# Altium schematic symbol library AUVic_Schematic_Library_Resistors.SchLib: 76 symbols
Pins are listed as number, name and electrical type; pins without a type are passive.

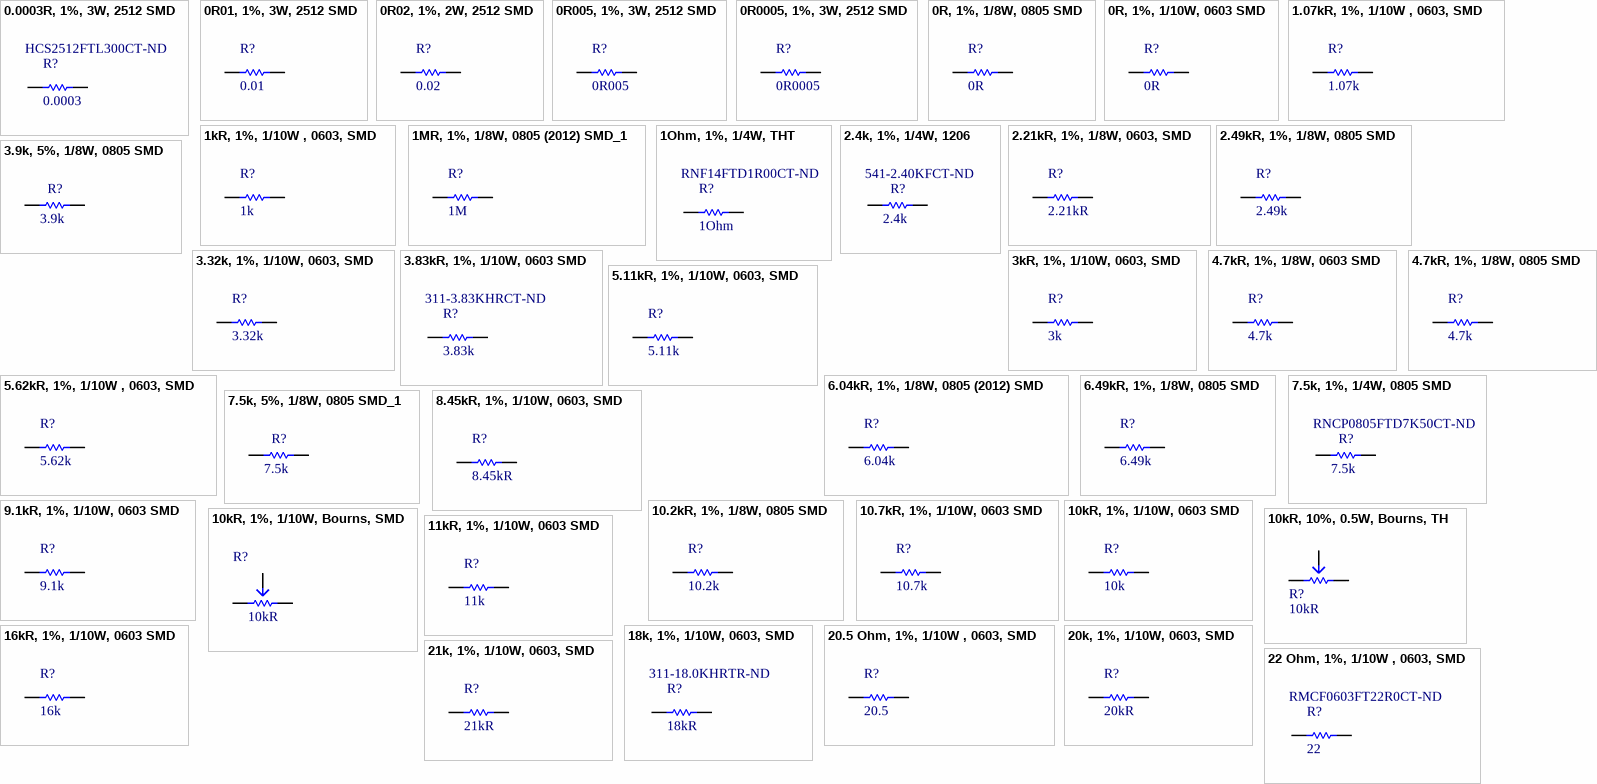
[diagram p0: symbols 0.0003R, 1%, 3W, 2512 SMD to 22 Ohm, 1%, 1/10W , 0603, SMD]

## 0.0003R, 1%, 3W, 2512 SMD
designator R?, comment 0.0003  Supplier Part Number 1: HCS2512FTL300CT-ND
0.0003R, 1%, 3W, 2512 SMD; Made By: Ashwin Sira; Owned By: AUVic; Created On: 14-05-31; Last Edited: 14-05-31; Value: 0.0003; Supplier 1: Digi-Key
footprint RESC6332N(2512") (Chip Resistor, Body 6.3x3.2mm (2512"), IPC Medium Density)
pins: 1, 2

## 0R01, 1%, 3W, 2512 SMD
designator R?, comment 0.01
RES 0.01 OHM 1% 3W 2512; Created By: Poorna Chander Kalidas; Created On: 2020-02-15; Supplier 1: Digi-Key; Supplier Part Number 1: CRA2512-FZ-R010ELFCT-ND; Value: 0.01
footprint RESC6332N(2512") (Chip Resistor, Body 6.3x3.2mm (2512"), IPC Medium Density)
pins: 1, 2

## 0R02, 1%, 2W, 2512 SMD
designator R?, comment 0.02
0R02, 1%, 2W, 2512 SMD; Created By: Robert Keen; Created On: 2018-08-16; ComponentLink1Description: Digikey; ComponentLink1URL: https://www.digikey.ca/product-detail/en/te-connectivity-passive-product/RLP73V3AR020FTDF/A109677CT-ND/4032443; Supplier 1: Digi-Key; Supplier Part Number 1: A109677CT-ND; Value: 0.02
footprint RESC6332N(2512") (Chip Resistor, Body 6.3x3.2mm (2512"), IPC Medium Density)
pins: 1, 2

## 0R005, 1%, 3W, 2512 SMD
designator R?, comment 0R005
0R005, 1%, 3W, 2512 SMD; MFG: Riedon; Created By: Andy Bates; Created On: 10-Nov-2017; Value: 0R005; Publisher: AUVic; Supplier 1: Digi-Key; Supplier Part Number 1: CRE2512-FZ-R005E-3CT-ND
footprint RESC6332N(2512") (Chip Resistor, Body 6.3x3.2mm (2512"), IPC Medium Density)
pins: 1, 2

## 0R0005, 1%, 3W, 2512 SMD
designator R?, comment 0R0005
0R0005, 1%, 3W, 2512 SMD; MFG: Riedon; MFG#: CSR2512C0R0005F; Last_Revision_By: Ashwin Sira; Last_Revision_Note: Made; Created By: Ashwin Sira; Created On: 2016-04-28; Value: 0R0005; Publisher: AUVic; Last_Revision_Date: 2016-04-28; Supplier 1: Digi-Key; Supplier Part Number 1: 696-1183-1-ND
footprint RESC6332N(2512") (Chip Resistor, Body 6.3x3.2mm (2512"), IPC Medium Density)
pins: 1, 2

## 0R, 1%, 1/8W, 0805 SMD
designator R?, comment 0R
0R, 1%, 1/8W, 0805 SMD; Made By: Ashwin Sira; Owned By: AUVic; Created On: 14-05-31; Last Edited: 14-05-31; Value: 0R; Supplier 1: Digi-Key; Supplier Part Number 1: 311-0.0ARCT-ND
footprint RESC2012N(0805") (Chip Resistor, Body 2.0x1.3mm (0805"), IPC Medium Density)
pins: 1, 2

## 0R, 1%, 1/10W, 0603 SMD
designator R?, comment 0R
0R, 1%, 1/10W, 0603 SMD; Made By: Ashwin Sira; Owned By: AUVic; Created On: 14-05-31; Last Edited: 14-05-31; Value: 0R; Supplier 1: Digi-Key; Supplier Part Number 1: 311-0.0GRCT-ND
footprint RESC1608N(0603") (Chip Resistor, Body 1.6x0.8mm (0603"), IPC Medium Density)
pins: 1, 2

## 1.07kR, 1%, 1/10W , 0603, SMD
designator R?, comment 1.07k
1.07kR, 1%, 1/10W , 0603, SMD; Created By: Ashwin Sira; Publisher: AUVic; Date Created: 2016-06-25; Value: 1.07k; Supplier 1: Digi-Key; Supplier Part Number 1: RMCF0603FT1K07CT-ND
footprint RESC1608N(0603") (Chip Resistor, Body 1.6x0.8mm (0603"), IPC Medium Density)
pins: 1, 2

## 1kR, 1%, 1/10W , 0603, SMD
designator R?, comment 1k
1kR, 1%, 1/10W , 0603, SMD; Created By: Andy Bates; Publisher: AUVic; Date Created: 2017-05-10; Value: 1k; Supplier 1: Digikey; Supplier Part Number 1: 311-1.00KHRCT-ND
footprint RESC1608N(0603") (Chip Resistor, Body 1.6x0.8mm (0603"), IPC Medium Density)
pins: 1, 2

## 1MR, 1%, 1/8W, 0805 (2012) SMD_1
designator R?, comment 1M
1MR, 1%, 1/8W, 0805 (2012) SMD; Made By: Ashwin Sira; Owned By: AUVic; Created On: 2016-03-14; Value: 1M; Supplier 1: Digi-Key; Supplier Part Number 1: P887KCCT-ND
footprint RESC2012N(0805") (Chip Resistor, Body 2.0x1.3mm (0805"), IPC Medium Density)
pins: 1, 2

## 1Ohm, 1%, 1/4W, THT
designator R?, comment 1Ohm  Supplier Part Number 1: RNF14FTD1R00CT-ND
1Ohm, 1%, 1/4W, THT; Made By: Ashwin Sira; Owned By: AUVic; Created On: 2016-03-09; Last Edited: 2016-03-09; Value: 1Ohm; Supplier 1: Digi-Key
footprint RESTHT 8mm (Resistor THT 30mil Hole, 8mm)
pins: 1, 2

## 2.4k, 1%, 1/4W, 1206
designator R?, comment 2.4k  Supplier Part Number 1: 541-2.40KFCT-ND
2.4k, 1%, 1/4W, 1206 SMD; Value: 2.4k; Created By: Robert Keen; Created On: 2018-07-11; ComponentLink1Description: Digikey; ComponentLink1URL: https://www.digikey.ca/product-detail/en/vishay-dale/CRCW12062K40FKEA/541-2.40KFCT-ND/1181801; Supplier 1: Digi-Key
footprint RESC1206(3216) (Chip Resistor, Body 3.2x1.6mm, IPC Low Density)
pins: 1, 2

## 2.21kR, 1%, 1/8W, 0603, SMD
designator R?, comment 2.21kR
2.21kR, 1%, 1/8W, 0603, SMD; Created By: *; Publisher: AUVic; Date Created: *; Value: 2.21kR; Supplier 1: Digi-Key; Supplier Part Number 1: RNCP0603FTD2K21CT-ND
footprint RESC1608N(0603") (Chip Resistor, Body 1.6x0.8mm (0603"), IPC Medium Density)
pins: 1, 2

## 2.49kR, 1%, 1/8W, 0805 SMD
designator R?, comment 2.49k
2.49kR, 1%, 1/8W, 0805 SMD; Made By: Ashwin Sira; Owned By: AUVic; Created On: 2016-03-18; Last Edited: 2016-03-18; Value: 2.49k; Supplier 1: Digi-Key; Supplier Part Number 1: 311-2.49KCRCT-ND
footprint RESC2012N(0805") (Chip Resistor, Body 2.0x1.3mm (0805"), IPC Medium Density)
pins: 1, 2

## 3.9k, 5%, 1/8W, 0805 SMD
designator R?, comment 3.9k
3.9k, 5%, 1/8W, 0805 SMD; Value: 3.9k; Created By: Lyden Smith; Created On: 2017-06-04; Supplier 1: Digi-Key; Supplier Part Number 1: RMCF0805JT3K90CT-ND
footprint RESC2012N(0805") (Chip Resistor, Body 2.0x1.3mm (0805"), IPC Medium Density)
pins: 1, 2

## 3.32k, 1%, 1/10W, 0603, SMD
designator R?, comment 3.32k
3.32k, 1%, 1/10W, 0603, SMD; Created By: Ashwin Sira; Publisher: AUVic; Date Created: 2016-06-25; Value: 3.32k; Supplier 1: Digi-Key; Supplier Part Number 1: RMCF0603FT3K32CT-ND
footprint RESC1608N(0603") (Chip Resistor, Body 1.6x0.8mm (0603"), IPC Medium Density)
pins: 1, 2

## 3.83kR, 1%, 1/10W, 0603 SMD
designator R?, comment 3.83k  Supplier Part Number 1: 311-3.83KHRCT-ND
3.83kR, 1%, 1/10W, 0603 SMD; Made By: Gabriel Green; Owned By: AUVic; Created On: June 25, 2017; Value: 3.83k; Supplier 1: Digi-Key
footprint RESC1608N(0603") (Chip Resistor, Body 1.6x0.8mm (0603"), IPC Medium Density)
pins: 1, 2

## 3kR, 1%, 1/10W, 0603, SMD
designator R?, comment 3k
Resistance, Tolerance, Power, 0603, SMD/THT; Created By: Jordan Day; Publisher: AUVic; Date Created: 09/28/2016; Value: 3k
footprint RESC1608N(0603") (Chip Resistor, Body 1.6x0.8mm (0603"), IPC Medium Density)
pins: 1, 2

## 4.7kR, 1%, 1/8W, 0603 SMD
designator R?, comment 4.7k
4.7kR, 1%, 1/8W, 0603 SMD; Made By: Ashwin Sira; Owned By: AUVic; Created On: 14-05-31; Last Edited: 14-05-31; Value: 4.7k; Supplier 1: Digi-Key; Supplier Part Number 1: MCT0603-4.70K-CFCT-ND
footprint RESC1608N(0603") (Chip Resistor, Body 1.6x0.8mm (0603"), IPC Medium Density)
pins: 1, 2

## 4.7kR, 1%, 1/8W, 0805 SMD
designator R?, comment 4.7k
4.7kR, 1%, 1/8W, 0805 SMD; Made By: Ashwin Sira; Owned By: AUVic; Created On: 14-05-31; Last Edited: 14-05-31; Value: 4.7k; Supplier 1: Digi-Key; Supplier Part Number 1: RMCF0805FT4K70CT-ND
footprint RESC2012N(0805") (Chip Resistor, Body 2.0x1.3mm (0805"), IPC Medium Density)
pins: 1, 2

## 5.11kR, 1%, 1/10W, 0603, SMD
designator R?, comment 5.11k
Resistance, Tolerance, Power, 0603, SMD/THT; Created By: Jordan Day; Publisher: AUVic; Date Created: 09/28/2016; Value: 5.11k
footprint RESC1608N(0603") (Chip Resistor, Body 1.6x0.8mm (0603"), IPC Medium Density)
pins: 1, 2

## 5.62kR, 1%, 1/10W , 0603, SMD
designator R?, comment 5.62k
5.62kR, 1%, 1/10W , 0603, SMD; Created By: Andy Bates; Publisher: AUVic; Date Created: 2016-06-29; Value: 5.62k; Supplier 1: Digi-Key; Supplier Part Number 1: 311-5.62KHRCT-ND
footprint RESC1608N(0603") (Chip Resistor, Body 1.6x0.8mm (0603"), IPC Medium Density)
pins: 1, 2

## 6.04kR, 1%, 1/8W, 0805 (2012) SMD
designator R?, comment 6.04k
6.04kR, 1%, 1/8W, 0805 (2012) SMD; Made By: Ashwin Sira; Owned By: AUVic; Created On: 2016-03-14; Value: 6.04k; Supplier 1: Digi-Key; Supplier Part Number 1: 311-6.04KCRCT-ND
footprint RESC2012N(0805") (Chip Resistor, Body 2.0x1.3mm (0805"), IPC Medium Density)
pins: 1, 2

## 6.49kR, 1%, 1/8W, 0805 SMD
designator R?, comment 6.49k
6.49kR, 1%, 1/8W, 0805 SMD; Made By: Ashwin Sira; Owned By: AUVic; Created On: 14-05-31; Last Edited: 14-05-31; Supplier 1: Digi-Key; Supplier Part Number 1: CR0805-FX-6491ELFCT-ND; Value: 6.49k
footprint RESC2012N(0805") (Chip Resistor, Body 2.0x1.3mm (0805"), IPC Medium Density)
pins: 1, 2

## 7.5k, 1%, 1/4W, 0805 SMD
designator R?, comment 7.5k  Supplier Part Number 1: RNCP0805FTD7K50CT-ND
7.5k, 1%, 1/4W, 0805 SMD; Value: 7.5k; Created By: Robert Keen; Created On: 2018-07-11; Supplier 1: Digi-Key; ComponentLink1Description: Digikey; ComponentLink1URL: https://www.digikey.ca/product-detail/en/stackpole-electronics-inc/RNCP0805FTD7K50/RNCP0805FTD7K50CT-ND/2240597
footprint RESC2012N(0805") (Chip Resistor, Body 2.0x1.3mm (0805"), IPC Medium Density)
pins: 1, 2

## 7.5k, 5%, 1/8W, 0805 SMD_1
designator R?, comment 7.5k
7.5k, 5%, 1/8W, 0805 SMD; Value: 7.5k; Created By: Lyden Smith; Created On: 2017-06-04; Supplier 1: Digi-Key; Supplier Part Number 1: 311-7.5KARCT-ND
footprint RESC2012N(0805") (Chip Resistor, Body 2.0x1.3mm (0805"), IPC Medium Density)
pins: 1, 2

## 8.45kR, 1%, 1/10W, 0603, SMD
designator R?, comment 8.45kR
8.45kR, 1%, 1/10W, 0603, SMD; Created By: Ashwin Sira; Publisher: AUVic; Date Created: 2016-06-10; Value: 8.45kR; Supplier 1: Digi-Key; Supplier Part Number 1: 541-8.45KHCT-ND
footprint RESC1608N(0603") (Chip Resistor, Body 1.6x0.8mm (0603"), IPC Medium Density)
pins: 1, 2

## 9.1kR, 1%, 1/10W, 0603 SMD
designator R?, comment 9.1k
9.1kR, 1%, 1/10W, 0603 SMD; Made By: Gabriel Green; Owned By: AUVic; Created On: June 25, 2017; Value: 9.1k; Supplier 1: Digi-Key; Supplier Part Number 1: 311-9.10KHRCT-ND
footprint RESC1608N(0603") (Chip Resistor, Body 1.6x0.8mm (0603"), IPC Medium Density)
pins: 1, 2

## 10.2kR, 1%, 1/8W, 0805 SMD
designator R?, comment 10.2k
10.2kR, 1%, 1/8W, 0805 SMD; Made By: Ashwin Sira; Owned By: AUVic; Created On: 2016-03-18; Last Edited: 2016-03-18; Value: 10.2k; Supplier 1: Digi-Key; Supplier Part Number 1: 311-10.2KCRCT-ND
footprint RESC2012N(0805") (Chip Resistor, Body 2.0x1.3mm (0805"), IPC Medium Density)
pins: 1, 2

## 10.7kR, 1%, 1/10W, 0603 SMD
designator R?, comment 10.7k
10.7kR, 1%, 1/10W, 0603 SMD; Made By: Gabriel Green; Owned By: AUVic; Created On: June 25, 2017; Value: 10.7k; Supplier 1: Digi-Key; Supplier Part Number 1: 311-10.7KHRCT-ND
footprint RESC1608N(0603") (Chip Resistor, Body 1.6x0.8mm (0603"), IPC Medium Density)
pins: 1, 2

## 10kR, 1%, 1/10W, 0603 SMD
designator R?, comment 10k
10kR, 1%, 1/10W, 0603 SMD; Made By: Ashwin Sira; Owned By: AUVic; Created On: 14-05-31; Last Edited: 14-05-31; Supplier 1: Digi-Key; Supplier Part Number 1: 311-10.0KHRCT-ND; Value: 10k
footprint RESC1608N(0603") (Chip Resistor, Body 1.6x0.8mm (0603"), IPC Medium Density)
pins: 1, 2

## 10kR, 1%, 1/10W, Bourns, SMD
designator R?, comment 10kR
10kR Pot, 1%, 1/10W, Bourns, SMD; Created By: Andy Bates; Publisher: AUVic; Date Created: 2016-09-8; Value: 10kR; Supplier 1: Digi-Key; Supplier Part Number 1: TC33X-103ETR-ND
footprint Bourns TC33X Trimmer
pins: 1, 2, 3

## 10kR, 10%, 0.5W, Bourns, TH
designator R?, comment 10kR
10kR Pot, 10%, 0.5W, Bourns, TH; Created By: Andy Bates; Publisher: AUVic; Date Created: 2016-09-8; Supplier 1: Digi-Key; Supplier Part Number 1: 490-2875-ND; Value: 10kR
footprint PV36
pins: 1, 2, 3

## 11kR, 1%, 1/10W, 0603 SMD
designator R?, comment 11k
11kR, 1%, 1/10W, 0603 SMD; Made By: Ashwin Sira; Owned By: AUVic; Created On: 14-05-31; Last Edited: 14-05-31; Value: 11k; Supplier 1: Digi-Key; Supplier Part Number 1: 311-11.0KHRCT-ND
footprint RESC1608N(0603") (Chip Resistor, Body 1.6x0.8mm (0603"), IPC Medium Density)
pins: 1, 2

## 16kR, 1%, 1/10W, 0603 SMD
designator R?, comment 16k
16kR, 1%, 1/10W, 0603 SMD; Made By: Ashwin Sira; Owned By: AUVic; Created On: 14-05-31; Last Edited: 14-05-31; Supplier 1: Digi-Key; Value: 16k; Supplier Part Number 1: 311-16.0KHRCT-ND
footprint RESC1608N(0603") (Chip Resistor, Body 1.6x0.8mm (0603"), IPC Medium Density)
pins: 1, 2

## 18k, 1%, 1/10W, 0603, SMD
designator R?, comment 18kR  Supplier Part Number 1: 311-18.0KHRTR-ND
18k, 1%, 1/10W, 0603, SMD; Created By: Andy Bates; Publisher: AUVic; Date Created: 2016-09-8; Value: 18kR; Supplier 1: Digi-Key
footprint RESC1608N(0603") (Chip Resistor, Body 1.6x0.8mm (0603"), IPC Medium Density)
pins: 1, 2

## 20.5 Ohm, 1%, 1/10W , 0603, SMD
designator R?, comment 20.5
20.5 Ohm, 1%, 1/10W , 0603, SMD; Created By: Gabriel Green; Publisher: AUVic; Date Created: 2017-06-23; Value: 20.5; Supplier 1: Digi-Key; Supplier Part Number 1: P20.5HCT-ND
footprint RESC1608N(0603") (Chip Resistor, Body 1.6x0.8mm (0603"), IPC Medium Density)
pins: 1, 2

## 20k, 1%, 1/10W, 0603, SMD
designator R?, comment 20kR
20k, 1%, 1/10W, 0603, SMD; Created By: Andy Bates; Publisher: AUVic; Date Created: 2016-09-8; Value: 20kR; Supplier 1: Digi-Key; Supplier Part Number 1: 311-20.0KHRCT-ND
footprint RESC1608N(0603") (Chip Resistor, Body 1.6x0.8mm (0603"), IPC Medium Density)
pins: 1, 2

## 21k, 1%, 1/10W, 0603, SMD
designator R?, comment 21kR
21k, 1%, 1/10W, 0603, SMD; Created By: Gabriel Green; Publisher: AUVic; Date Created: 2017-06-23; Value: 21kR; Supplier 1: Digi-Key; Supplier Part Number 1: 311-21.0KHRCT-ND
footprint RESC1608N(0603") (Chip Resistor, Body 1.6x0.8mm (0603"), IPC Medium Density)
pins: 1, 2

## 22 Ohm, 1%, 1/10W , 0603, SMD
designator R?, comment 22  Supplier Part Number 1: RMCF0603FT22R0CT-ND
22 Ohm, 1%, 1/10W , 0603, SMD; Created By: Robert Keen; Publisher: AUVic; Date Created: 2018-07-17; Value: 22; ComponentLink1Description: Digikey; ComponentLink1URL: https://www.digikey.ca/product-detail/en/stackpole-electronics-inc/RMCF0603FT22R0/RMCF0603FT22R0CT-ND/1942946; Supplier 1: Digi-Key
footprint RESC1608N(0603") (Chip Resistor, Body 1.6x0.8mm (0603"), IPC Medium Density)
pins: 1, 2

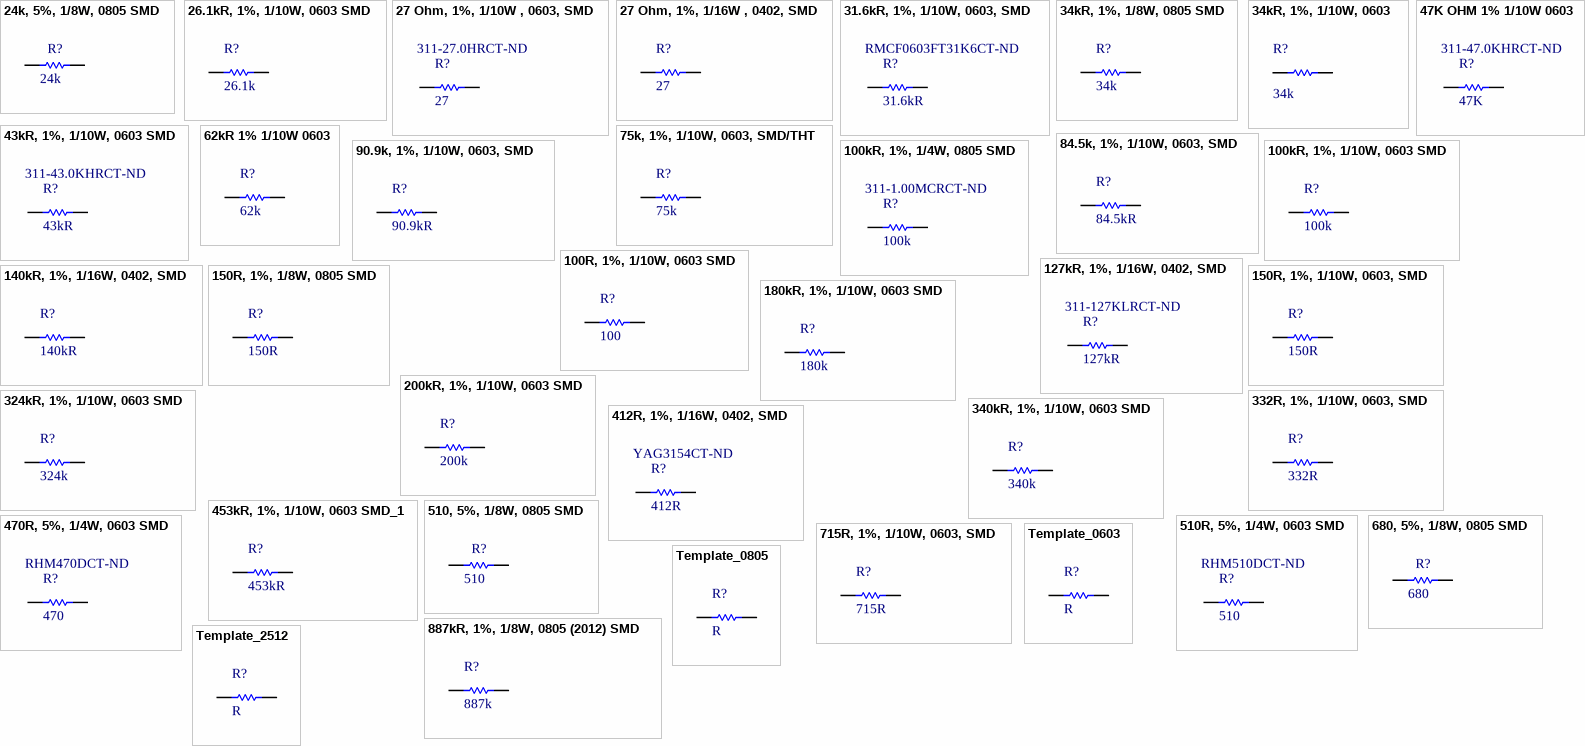
[diagram p1: symbols 24k, 5%, 1/8W, 0805 SMD to Template_2512]

## 24k, 5%, 1/8W, 0805 SMD
designator R?, comment 24k
24k, 5%, 1/8W, 0805 SMD; Value: 24k; Created By: Lyden Smith; Created On: 2017-06-04; Supplier 1: Digi-Key; Supplier Part Number 1: RMCF0805JT24K0CT-ND
footprint RESC2012N(0805") (Chip Resistor, Body 2.0x1.3mm (0805"), IPC Medium Density)
pins: 1, 2

## 26.1kR, 1%, 1/10W, 0603 SMD
designator R?, comment 26.1k
26.1kR, 1%, 1/10W, 0603 SMD; Made By: Gabriel Green; Owned By: AUVic; Created On: June 25, 2017; Value: 26.1k; Supplier 1: Digi-Key; Supplier Part Number 1: 311-26.1KHRCT-ND
footprint RESC1608N(0603") (Chip Resistor, Body 1.6x0.8mm (0603"), IPC Medium Density)
pins: 1, 2

## 27 Ohm, 1%, 1/10W , 0603, SMD
designator R?, comment 27  Supplier Part Number 1: 311-27.0HRCT-ND
27 Ohm, 1%, 1/10W , 0603, SMD; Created By: Andy Bates; Publisher: AUVic; Date Created: 2017-10-13; Value: 27; Supplier 1: Digi-Key
footprint RESC1608N(0603") (Chip Resistor, Body 1.6x0.8mm (0603"), IPC Medium Density)
pins: 1, 2

## 27 Ohm, 1%, 1/16W , 0402, SMD
designator R?, comment 27
27 Ohm, 1%, 1/16W , 0402, SMD; Created By: Andy Bates; Publisher: AUVic; Date Created: 2018-1-06; Value: 27; Supplier 1: Digi-Key; Supplier Part Number 1: YAG3086CT-ND
footprint RESC1005N(0402") (Chip Resistor, Body 1.1x0.5mm (0402"), IPC Medium Density)
pins: 1, 2

## 31.6kR, 1%, 1/10W, 0603, SMD
designator R?, comment 31.6kR  Supplier Part Number 1: RMCF0603FT31K6CT-ND
31.6kR, 1%, 1/10W, 0603, SMD; Created By: Robert Keen; Date Created: 2018-07-18; Value: 31.6kR; ComponentLink1Description: Digikey; ComponentLink1URL: https://www.digikey.ca/product-detail/en/stackpole-electronics-inc/RMCF0603FT31K6/RMCF0603FT31K6CT-ND/1943089; Supplier 1: Digi-Key
footprint RESC1608N(0603") (Chip Resistor, Body 1.6x0.8mm (0603"), IPC Medium Density)
pins: 1, 2

## 34kR, 1%, 1/8W, 0805 SMD
designator R?, comment 34k
34kR, 1%, 1/8W, 0805 SMD; Made By: Ashwin Sira; Owned By: AUVic; Created On: 14-05-31; Last Edited: 14-05-31; Supplier 1: Digi-Key; Supplier Part Number 1: RMCF0805FT34K0CT-ND; Value: 34k
footprint RESC2012N(0805") (Chip Resistor, Body 2.0x1.3mm (0805"), IPC Medium Density)
pins: 1, 2

## 34kR, 1%, 1/10W, 0603
designator R?, comment 34k
RES 34K OHM 1/10W 1% 0603 SMD; Manufacturer: Yageo; Manufacturer Part Number: RC0603FR-0734KL; Power (Watts): 0.1W, 1/10W; Temperature Coefficient: ±100ppm/°C; Supplier 1: Digi-Key; RoHS: RoHS Compliant; Category: Resistors; Stock 1: 192; Pricing 1: 1=0.1, 10=0.015, 25=0.0108, 100=0.006, 250=0.00456, 500=0.00364, 1000=0.00268, 2500=0.00233 (USD); Packaging: Cut Tape (CT); Resistance: 34k; Tolerance: ±1%; Composition: Thick Film; Features: Moisture Resistant; Operating Temperature: -55°C ~ 155°C; Package / Case: 0603 (1608 Metric); Supplier Device Package: 0603; Size / Dimension: 0.063" L x 0.031" W (1.60mm x 0.80mm); Height: 0.022" (0.55mm); Number of Terminations: 2; ComponentLink1URL: http://www.yageo.com/documents/recent/PYu-RC0603_51_RoHS_L_4.pdf; ComponentLink1Description: http://www.yageo.com/documents/recent/PYu-RC0603_51_RoHS_L_4.pdf; Supplier Part Number 1: 311-34.0KHRCT-ND
footprint RESC1608N(0603") (Chip Resistor, Body 1.6x0.8mm (0603"), IPC Medium Density)
pins: 1, 2

## 43kR, 1%, 1/10W, 0603 SMD
designator R?, comment 43kR  Supplier Part Number 1: 311-43.0KHRCT-ND
43kR, 1%, 1/10W, 0603 SMD; Made By: Andy Bates; Owned By: AUVic; Created On: 19-09-12; Last Edited: 16-09-13; Value: 43kR; Supplier 1: Digi-Key
footprint RESC1608N(0603") (Chip Resistor, Body 1.6x0.8mm (0603"), IPC Medium Density)
pins: 1, 2

## 47K OHM 1% 1/10W 0603
designator R?, comment 47K  Supplier Part Number 1: 311-47.0KHRCT-ND
47K OHM 1% 1/10W 0603; Made By: Silvano Todesco; Publisher: AUVic; Date Created: 11-07-2017; Value: 47K; Supplier 1: Digi-Key
footprint RESC1608N(0603") (Chip Resistor, Body 1.6x0.8mm (0603"), IPC Medium Density)
pins: 1, 2

## 62kR 1% 1/10W 0603
designator R?, comment 62k
62K OHM 1% 1/10W 0603; Made By: Silvano Todesco; Publisher: AUVic; Date Created: 11-09-2017; Value: 62k; Supplier 1: Digi-Key; Supplier Part Number 1: 311-62.0KHRCT-ND
footprint RESC1608N(0603") (Chip Resistor, Body 1.6x0.8mm (0603"), IPC Medium Density)
pins: 1, 2

## 75k, 1%, 1/10W, 0603, SMD/THT
designator R?, comment 75k
75k, 1%, 1/10W, 0603, SMD/THT; Created By: Jordan Day; Publisher: AUVic; Date Created: October 4, 2016; Value: 75k; Supplier: Digikey; Supplier Part Number: 311-75.0KHRCT-ND
footprint RESC1608N(0603") (Chip Resistor, Body 1.6x0.8mm (0603"), IPC Medium Density)
pins: 1, 2

## 84.5k, 1%, 1/10W, 0603, SMD
designator R?, comment 84.5kR
84.5k, 1%, 1/10W, 0603, SMD; Created By: Ashwin Sira; Publisher: AUVic; Date Created: 2016-06-25; Value: 84.5kR; Supplier 1: Digi-Key; Supplier Part Number 1: 541-84.5KHCT-ND
footprint RESC1608N(0603") (Chip Resistor, Body 1.6x0.8mm (0603"), IPC Medium Density)
pins: 1, 2

## 90.9k, 1%, 1/10W, 0603, SMD
designator R?, comment 90.9kR
90.9k, 1%, 1/10W, 0603, SMD; Created By: Andy Bates; Publisher: AUVic; Date Created: 2017-06-06; Value: 90.9kR; Supplier 1: Digikey; Supplier Part Number 1: 311-90.9KHRDKR-ND
footprint RESC1608N(0603") (Chip Resistor, Body 1.6x0.8mm (0603"), IPC Medium Density)
pins: 1, 2

## 100kR, 1%, 1/4W, 0805 SMD
designator R?, comment 100k  Supplier Part Number 1: 311-1.00MCRCT-ND
100kR, 1%, 1/4W, 0805 SMD; Made By: Ashwin Sira; Owned By: AUVic; Created On: 14-05-31; Last Edited: 14-05-31; Value: 100k; Supplier 1: Digi-Key
footprint RESC2012N(0805") (Chip Resistor, Body 2.0x1.3mm (0805"), IPC Medium Density)
pins: 1, 2

## 100kR, 1%, 1/10W, 0603 SMD
designator R?, comment 100k
100kR, 1%, 1/10W, 0603 SMD; Made By: Andy Bates; Owned By: AUVic; Created On: 14-06-30; Last Edited: 14-06-30; Value: 100k; Supplier 1: Digi-Key; Supplier Part Number 1: 311-100KGRCT-ND
footprint RESC1608N(0603") (Chip Resistor, Body 1.6x0.8mm (0603"), IPC Medium Density)
pins: 1, 2

## 100R, 1%, 1/10W, 0603 SMD
designator R?, comment 100
100R, 1%, 1/10W, 0603 SMD; Made By: Andy Bates; Owned By: AUVic; Created On: 16-09-10; Last Edited: 16-09-10; Value: 100; Supplier 1: Digi-Key; Supplier Part Number 1: 311-100HRCT-ND
footprint RESC1608N(0603") (Chip Resistor, Body 1.6x0.8mm (0603"), IPC Medium Density)
pins: 1, 2

## 127kR, 1%, 1/16W, 0402, SMD
designator R?, comment 127kR  Supplier Part Number 1: 311-127KLRCT-ND
127kR, 1%, 1/16W, 0402, SMD; Created By: Lyden Smith; Publisher: AUVic; Date Created: 2017-09-20; Value: 127kR; Supplier 1: Digi-Key
footprint RESC1005N(0402") (Chip Resistor, Body 1.1x0.5mm (0402"), IPC Medium Density)
pins: 1, 2

## 140kR, 1%, 1/16W, 0402, SMD
designator R?, comment 140kR
140kR, 1%, 1/16W, 0402, SMD; Created By: Lyden Smith; Publisher: AUVic; Date Created: 2017-09-22; Value: 140kR; Supplier 1: Digi-Key; Supplier Part Number 1: YAG2978CT-ND
footprint RESC1005N(0402") (Chip Resistor, Body 1.1x0.5mm (0402"), IPC Medium Density)
pins: 1, 2

## 150R, 1%, 1/8W, 0805 SMD
designator R?, comment 150R
150Ohm, 1%, 1/8W, 0805 SMD; Made By: Ashwin Sira; Owned By: AUVic; Created On: 14-05-31; Last Edited: 14-05-31; Value: 150R; Supplier 1: Digi-Key; Supplier Part Number 1: 311-150CRCT-ND
footprint RESC2012N(0805") (Chip Resistor, Body 2.0x1.3mm (0805"), IPC Medium Density)
pins: 1, 2

## 150R, 1%, 1/10W, 0603, SMD
designator R?, comment 150R
RES SMD 150 OHM 1% 1/10W 0603; Created By: Robert Keen; Publisher: AUVic; Date Created: 2018-08-15; Value: 150R; Supplier 1: Digi-Key; Supplier Part Number 1: P150HCT-ND; ComponentLink1Description: Digikey; ComponentLink1URL: https://www.digikey.ca/product-detail/en/panasonic-electronic-components/ERJ-3EKF1500V/P150HCT-ND/198177
footprint RESC1608N(0603") (Chip Resistor, Body 1.6x0.8mm (0603"), IPC Medium Density)
pins: 1, 2

## 180kR, 1%, 1/10W, 0603 SMD
designator R?, comment 180k
180kR, 1%, 1/10W, 0603 SMD; Made By: Andy Bates; Owned By: AUVic; Created On: 16-09-10; Last Edited: 16-09-10; Value: 180k; Supplier 1: Digi-Key; Supplier Part Number 1: 311-180KHRTR-ND
footprint RESC1608N(0603") (Chip Resistor, Body 1.6x0.8mm (0603"), IPC Medium Density)
pins: 1, 2

## 200kR, 1%, 1/10W, 0603 SMD
designator R?, comment 200k
200kR, 1%, 1/10W, 0603 SMD; Made By: Ashwin Sira; Owned By: AUVic; Created On: 14-07-10; Value: 200k; Supplier 1: Digi-Key; Supplier Part Number 1: 541-200KHCT-ND
footprint RESC1608N(0603") (Chip Resistor, Body 1.6x0.8mm (0603"), IPC Medium Density)
pins: 1, 2

## 324kR, 1%, 1/10W, 0603 SMD
designator R?, comment 324k
324kR, 1%, 1/10W, 0603 SMD; Made By: Andy Bates; Owned By: AUVic; Created On: 14-05-31; Last Edited: 14-05-31; Value: 324k; Supplier 1: Digi-Key; Supplier Part Number 1: 311-324KHRCT-ND
footprint RESC1608N(0603") (Chip Resistor, Body 1.6x0.8mm (0603"), IPC Medium Density)
pins: 1, 2

## 332R, 1%, 1/10W, 0603, SMD
designator R?, comment 332R
332R, 1%, 1/10W, 0603, SMD; Created By: Ashwin Sira; Publisher: AUVic; Date Created: 2016-06-10; Value: 332R; Supplier 1: Digi-Key; Supplier Part Number 1: 541-332HCT-ND
footprint RESC1608N(0603") (Chip Resistor, Body 1.6x0.8mm (0603"), IPC Medium Density)
pins: 1, 2

## 340kR, 1%, 1/10W, 0603 SMD
designator R?, comment 340k
340kR, 1%, 1/10W, 0603 SMD; Made By: Andy Bates; Owned By: AUVic; Created On: 14-05-31; Last Edited: 14-05-31; Value: 340k; Supplier 1: Digi-Key; Supplier Part Number 1: 311-340KHRCT-ND
footprint RESC1608N(0603") (Chip Resistor, Body 1.6x0.8mm (0603"), IPC Medium Density)
pins: 1, 2

## 412R, 1%, 1/16W, 0402, SMD
designator R?, comment 412R  Supplier Part Number 1: YAG3154CT-ND
412R, 1%, 1/16W, 0402, SMD; Created By: Lyden Smith; Publisher: AUVic; Date Created: 2017-09-19; Value: 412R; Supplier 1: Digi-Key
footprint RESC1005N(0402") (Chip Resistor, Body 1.1x0.5mm (0402"), IPC Medium Density)
pins: 1, 2

## 453kR, 1%, 1/10W, 0603 SMD_1
designator R?, comment 453kR
453kR, 1%, 1/10W, 0603 SMD; Value: 453kR; Created By: Lyden Smith; Date Created: 2017-10-13; Supplier 1: Digi-Key; Supplier Part Number 1: 311-453KHRDKR-ND
footprint RESC1608N(0603") (Chip Resistor, Body 1.6x0.8mm (0603"), IPC Medium Density)
pins: 1, 2

## 470R, 5%, 1/4W, 0603 SMD
designator R?, comment 470  Supplier Part Number 1: RHM470DCT-ND
470R, 5%, 1/4W, 0603 SMD; Made By: Robert Keen; Value: 470; Made On: 2018-07-17; ComponentLink1Description: Digikey; ComponentLink1URL: https://www.digikey.ca/product-detail/en/rohm-semiconductor/ESR03EZPJ471/RHM470DCT-ND/1762935; Supplier 1: Digi-Key
footprint RESC1608N(0603") (Chip Resistor, Body 1.6x0.8mm (0603"), IPC Medium Density)
pins: 1, 2

## 510, 5%, 1/8W, 0805 SMD
designator R?, comment 510
510, 5%, 1/8W, 0805 SMD; Value: 510; Created By: Lyden Smith; Created On: 2017-06-04; Supplier 1: Digi-Key; Supplier Part Number 1: RMCF0805JT510RCT-ND
footprint RESC2012N(0805") (Chip Resistor, Body 2.0x1.3mm (0805"), IPC Medium Density)
pins: 1, 2

## 510R, 5%, 1/4W, 0603 SMD
designator R?, comment 510  Supplier Part Number 1: RHM510DCT-ND
510R, 5%, 1/4W, 0603 SMD; Made By: Robert Keen; Value: 510; Made On: 2018-07-17; ComponentLink1Description: Digikey; ComponentLink1URL: https://www.digikey.ca/product-detail/en/rohm-semiconductor/ESR03EZPJ511/RHM510DCT-ND/1762937; Supplier 1: Digi-Key
footprint RESC1608N(0603") (Chip Resistor, Body 1.6x0.8mm (0603"), IPC Medium Density)
pins: 1, 2

## 680, 5%, 1/8W, 0805 SMD
designator R?, comment 680
680, 5%, 1/8W, 0805 SMD; Value: 680; Created By: Lyden Smith; Created On: 2017-06-04; Supplier 1: Digi-Key; Supplier Part Number 1: RMCF0805JT680RCT-ND
footprint RESC2012N(0805") (Chip Resistor, Body 2.0x1.3mm (0805"), IPC Medium Density)
pins: 1, 2

## 715R, 1%, 1/10W, 0603, SMD
designator R?, comment 715R
715R, 1%, 1/10W, 0603, SMD; Created By: Ashwin Sira; Publisher: AUVic; Date Created: 2016-06-10; Value: 715R; Supplier 1: Digi-Key; Supplier Part Number 1: 541-715HCT-ND
footprint RESC1608N(0603") (Chip Resistor, Body 1.6x0.8mm (0603"), IPC Medium Density)
pins: 1, 2

## 887kR, 1%, 1/8W, 0805 (2012) SMD
designator R?, comment 887k
887kR, 1%, 1/8W, 0805 (2012) SMD; Made By: Ashwin Sira; Owned By: AUVic; Created On: 2016-03-14; Value: 887k; Supplier 1: Digi-Key; Supplier Part Number 1: P887KCCT-ND
footprint RESC2012N(0805") (Chip Resistor, Body 2.0x1.3mm (0805"), IPC Medium Density)
pins: 1, 2

## Template_0603
designator R?, comment R
Resistance, Tolerance, Power, 0603, SMD/THT; Created By: *; Publisher: AUVic; Date Created: *; Value: R
footprint RESC1608N(0603") (Chip Resistor, Body 1.6x0.8mm (0603"), IPC Medium Density)
pins: 1, 2

## Template_0805
designator R?, comment R
Resistance, Tolerance, Power, 0805, SMD/THT; Created By: *; Publisher: AUVic; Date Created: *; Value: R
footprint RESC2012N(0805") (Chip Resistor, Body 2.0x1.3mm (0805"), IPC Medium Density)
pins: 1, 2

## Template_2512
designator R?, comment R
Resistance, Tolerance, Power, 2512, SMD/THT; Created By: *; Publisher: AUVic; Date Created: *; Value: R
footprint RESC6332N(2512") (Chip Resistor, Body 6.3x3.2mm (2512"), IPC Medium Density)
pins: 1, 2